# EAGLE library part MC4558CD (library ST_Microelctronics_By_element14_Batch_1)
Wide bandwidth dual bipolar operational amplifier
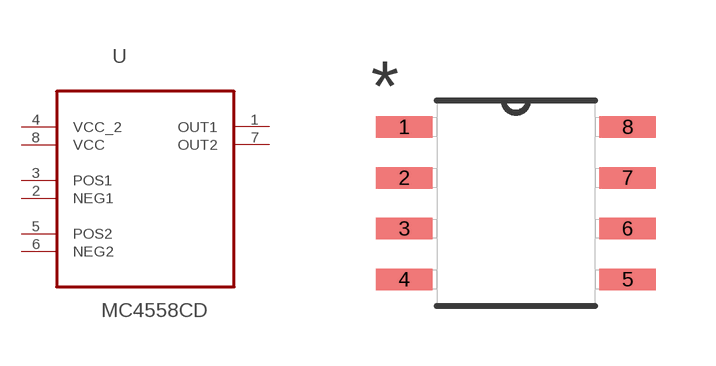
[diagram p282: symbol with the pads of SOIC127P600X175-8N; footprint SOIC127P600X175-8N]

Designator prefix U

## MC4558CD (MPN: MC4558CD; OC_FARNELL: 1564342; OC_NEWARK: 89K1435; PACKAGE: 8-SOIC; SUPPLIER: STMICROELECTRONICS)  [SOIC127P600X175-8N]
1  OUT1  out
2  NEG1  in
3  POS1  in
4  VCC_2  pwr
5  POS2  in
6  NEG2  in
7  OUT2  out
8  VCC  pwr

## Footprint SOIC127P600X175-8N (pad centres in mm)
smd 1.422 x 0.533: 1 -2.794,1.905; 2 -2.794,0.635; 3 -2.794,-0.635; 4 -2.794,-1.905; 5 2.794,-1.905; 6 2.794,-0.635; 7 2.794,0.635; 8 2.794,1.905